# Altium schematic symbol library BoatRC.SchLib: 21 symbols
Pins are listed as number, name and electrical type; pins without a type are passive.

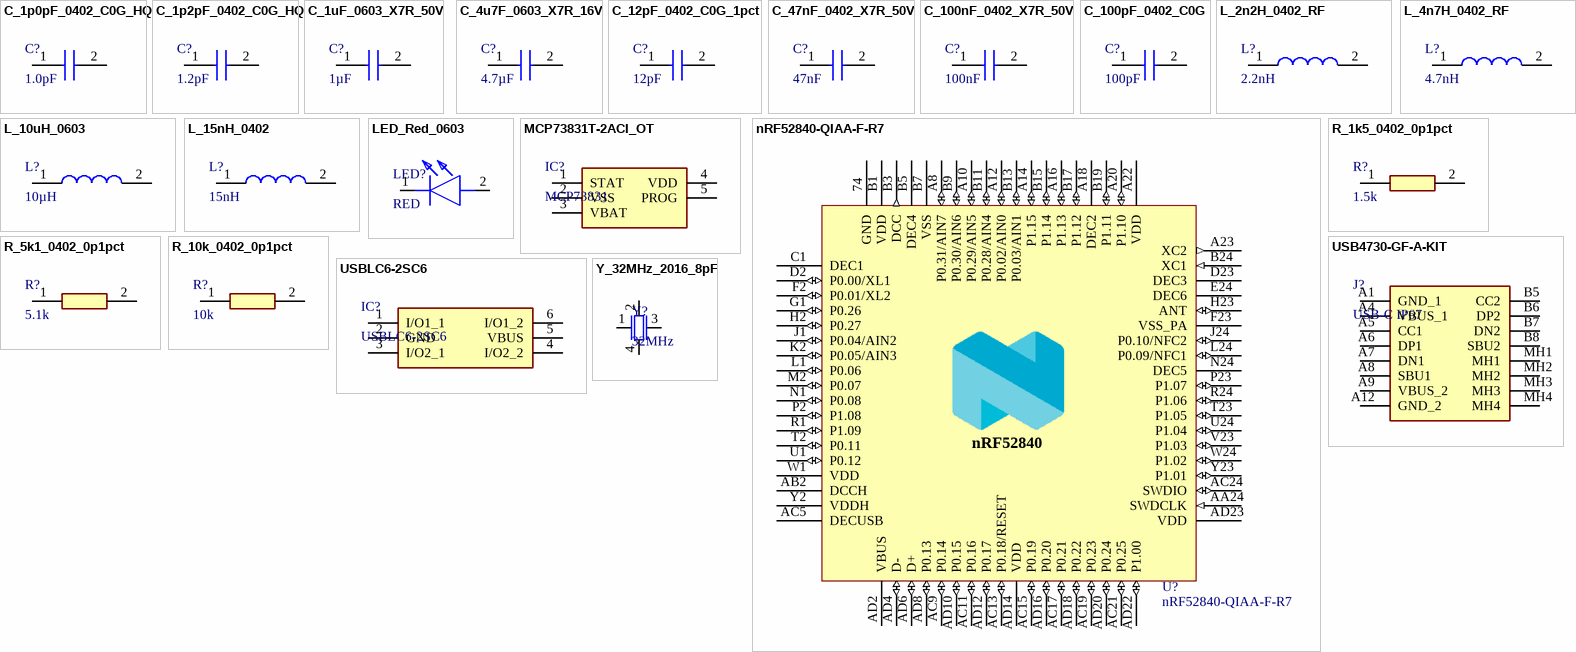
[diagram p0: symbols C_1p0pF_0402_C0G_HQ to Y_32MHz_2016_8pF]

## C_1p0pF_0402_C0G_HQ
designator C?, comment 1.0pF
1.0 pF C0G ±0.05 pF high-Q; Manufacturer_Name: Murata Electronics; Manufacturer_Part_Number: GJM1555C1H1R0WB01D; Height: 0.55mm; LCSC: C72134
footprint CAPC1005X55N
pins: 1, 2

## C_1p2pF_0402_C0G_HQ
designator C?, comment 1.2pF
1.2 pF C0G ±0.05 pF high-Q; Manufacturer_Name: Murata Electronics; Manufacturer_Part_Number: GJM1555C1H1R2WB01D; Height: 0.55mm; LCSC: C76899
footprint CAPC1005X55N
pins: 1, 2

## C_1uF_0603_X7R_50V
designator C?, comment 1µF
1.0 µF X7R ±10% 50 V; Manufacturer_Name: SAMSUNG; Manufacturer_Part_Number: CL10B105KB8NQNC; Height: 0.95mm; LCSC: C5199872
footprint CAPC1608X95N
pins: 1, 2

## C_4u7F_0603_X7R_16V
designator C?, comment 4.7µF
4.7 µF X7R ±10% 16 V; Manufacturer_Name: Murata Electronics; Manufacturer_Part_Number: GRM188Z71C475KE21D; Height: 0.9mm; LCSC: C389010
footprint GRM18x
pins: 1, 2

## C_12pF_0402_C0G_1pct
designator C?, comment 12pF
12 pF C0G ±1% 50 V; Manufacturer_Name: Murata Electronics; Manufacturer_Part_Number: GCM1555C1H120FA16D; Height: 0.55mm; LCSC: C393682
footprint GCM155
pins: 1, 2

## C_47nF_0402_X7R_50V
designator C?, comment 47nF
47 nF X7R ±10% 50 V; Manufacturer_Name: Yageo Group; Manufacturer_Part_Number: CC0402KRX7R9BB473; Height: 0.55mm; LCSC: C272875
footprint CAPC1005X55N
pins: 1, 2

## C_100nF_0402_X7R_50V
designator C?, comment 100nF
100 nF X7R ±10% 50 V; Manufacturer_Name: SAMSUNG; Manufacturer_Part_Number: CL05B104KB54PNC; Height: 0.55mm; LCSC: C307331
footprint RESC1005X55N
pins: 1, 2

## C_100pF_0402_C0G
designator C?, comment 100pF
100 pF C0G ±5% 50 V; Manufacturer_Name: Guangdong Fenghua Advanced Tech; Manufacturer_Part_Number: 0402CG101J500NT; Height: 0.55mm; LCSC: C1546
footprint CAPC1005X55N
pins: 1, 2

## L_2n2H_0402_RF
designator L?, comment 2.2nH
2.2 nH ±0.1 nH RF; Manufacturer_Name: Murata Electronics; Manufacturer_Part_Number: LQG15HS15NJ02D; Height: 0.6mm; LCSC: C162540
footprint LQG15WH0N7B02D
pins: 1, 2

## L_4n7H_0402_RF
designator L?, comment 4.7nH
4.7 nH ±0.1 nH RF; Manufacturer_Name: Murata Electronics; Manufacturer_Part_Number: LQG15HN4N7B02D; Height: 0.6mm; LCSC: C3911180
footprint LQG15WH0N7B02D
pins: 1, 2

## L_10uH_0603
designator L?, comment 10µH
10 µH ±20%, 400 mA, 0.55 Ω; Manufacturer_Name: Microgate; Manufacturer_Part_Number: MGFL1608F100MT-LF; LCSC: C281107; Height: 0.8mm
footprint CAPC1608X95N
pins: 1, 2

## L_15nH_0402
designator L?, comment 15nH
15 nH ±5%, 450 mA; Manufacturer_Name: Murata Electronics; Manufacturer_Part_Number: LQG15HS2N2B02D; Height: 0.6mm; LCSC: C86059
footprint LQG15WH0N7B02D
pins: 1, 2

## LED_Red_0603
designator LED?, comment RED
Red LED 631 nm 54 mcd water clear; Manufacturer_Name: Lite-On; Manufacturer_Part_Number: LTST-C191KRKT; Description: Standard LEDs - SMD Red Clear 631nm; Height: 0.55mm; LCSC: C125099
footprint LEDC1608X55N
pins: 1 K, 2 A

## MCP73831T-2ACI_OT
designator IC?, comment MCP73831
LiPo linear charger 4.20 V 500 mA max; Manufacturer_Name: Microchip; Manufacturer_Part_Number: MCP73831T-2ACI/OT; Description: Li-Ion Charge Controller 4.2V SOT23-5; Height: 1.45mm; LCSC: C424093
footprint SOT95P270X145-5N
pins: 1 STAT, 2 VSS, 3 VBAT, 4 VDD, 5 PROG

## nRF52840-QIAA-F-R7
designator U?
Multi-protocol Bluetooth Low Energy, IEEE 802.15.4, ANT and 2.4GHz proprietary system-on-chip; Manufacturer_Name: Nordic Semiconductor; LCSC: C3606858; Manufacturer_Part_Number: nRF52840-QIAA-F-R7
footprint AQFN50P700X700X85_HS-74N
pins: 74 GND (power), A8 P0.31/AIN7 (io), A10 P0.29/AIN5 (io), A12 P0.02/AIN0 (io), A14 P1.15 (io), A16 P1.13 (io), A18 DEC2 (power), A20 P1.10 (io), A22 VDD (power), A23 XC2 (out), AA24 SWDCLK (in), AB2 DCCH (power), AC5 DECUSB (power), AC9 P0.14 (io), AC11 P0.16 (io), AC13 P0.18/RESET (io), AC15 P0.19 (io), AC17 P0.21 (io), AC19 P0.23 (io), AC21 P0.25 (io), AC24 SWDIO (io), AD2 VBUS (power), AD4 D- (io), AD6 D+ (io), AD8 P0.13 (io), AD10 P0.15 (io), AD12 P0.17 (io), AD14 VDD (power), AD16 P0.20 (io), AD18 P0.22 (io), AD20 P0.24 (io), AD22 P1.00 (io), AD23 VDD (power), B1 VDD (power), B3 DCC (out), B5 DEC4 (power), B7 VSS (power), B9 P0.30/AIN6 (io), B11 P0.28/AIN4 (io), B13 P0.03/AIN1 (io), B15 P1.14 (io), B17 P1.12 (io), B19 P1.11 (io), B24 XC1 (in), C1 DEC1 (power), D2 P0.00/XL1 (io), D23 DEC3 (power), E24 DEC6 (power), F2 P0.01/XL2 (io), F23 VSS_PA (power), G1 P0.26 (io), H2 P0.27 (io), H23 ANT (io), J1 P0.04/AIN2 (io), J24 P0.10/NFC2 (io), K2 P0.05/AIN3 (io), L1 P0.06 (io), L24 P0.09/NFC1 (io), M2 P0.07 (io), N1 P0.08 (io), N24 DEC5 (power), P2 P1.08 (io), P23 P1.07 (io), R1 P1.09 (io), R24 P1.06 (io), T2 P0.11 (io), T23 P1.05 (io), U1 P0.12 (io), U24 P1.04 (io), V23 P1.03 (io), W1 VDD (power), W24 P1.02 (io), Y2 VDDH (power), Y23 P1.01 (io)
text: nRF52840

## R_1k5_0402_0p1pct
designator R?, comment 1.5k
1.5 kΩ thin film ±0.1% 25 ppm; Manufacturer_Name: Yageo Group; Manufacturer_Part_Number: RT0402BRD071K5L; Height: 0.35mm; LCSC: C281775
footprint RESC1005X35N
pins: 1, 2

## R_5k1_0402_0p1pct
designator R?, comment 5.1k
5.1 kΩ thin film ±0.1% 25 ppm; Manufacturer_Name: Yageo Group; Manufacturer_Part_Number: RT0402BRD075K1L; Description: Thin Film Resistors - SMD 1/16W 5.1K ohm .1% 2 5ppm; Height: 0.35mm; LCSC: C852856
footprint RESC1005X35N
pins: 1, 2

## R_10k_0402_0p1pct
designator R?, comment 10k
10 kΩ thin film ±0.1% 25 ppm; Manufacturer_Name: Yageo Group; Manufacturer_Part_Number: RT0402BRD0710KL; Description: Thin Film Resistors - SMD 10K ohm 0.1% 1/16W; Height: 0.35mm; LCSC: C190095
footprint RESC1005X35N
pins: 1, 2

## USB4730-GF-A-KIT
designator J?, comment USB-C IP67
USB-C receptacle, USB 2.0, 16-pin, top-mount SMT, IP67 with USBTJ-04 gasket; Manufacturer_Name: GCT (GLOBAL CONNECTOR TECHNOLOGY); Manufacturer_Part_Number: USB4730-GF-A-KIT; LCSC: C20598701; Digikey: 2073-USB4730-GF-A-KITCT-ND
footprint USB4730GFAKIT
pins: A1 GND_1, A4 VBUS_1, A5 CC1, A6 DP1, A7 DN1, A8 SBU1, A9 VBUS_2, A12 GND_2, B5 CC2, B6 DP2, B7 DN2, B8 SBU2, MH1, MH2, MH3, MH4

## USBLC6-2SC6
designator IC?
USB 2.0 ESD 2-line + VBUS; Manufacturer_Name: STMicroelectronics; Description: TVS Diode Array Uni-Directional USBLC6-2SC6 17V; Height: 1.45mm; Manufacturer_Part_Number: USBLC6-2SC6; LCSC: C7519
footprint SOT95P280X145-6N
pins: 1 I/O1_1, 2 GND, 3 I/O2_1, 4 I/O2_2, 5 VBUS, 6 I/O1_2

## Y_32MHz_2016_8pF
designator Y?, comment 32MHz
32 MHz, 8 pF, ±10/±20 ppm; Manufacturer_Name: Yangxing Tech; Manufacturer_Part_Number: X201632MKB4SI; Height: 0.5mm; LCSC: C718072
footprint X201632MKB4SI
pins: 1 inp, 2 GND, 3 out, 4 GND